# Altium footprint library Relay_SMD.PcbLib: 21 footprints (part 2 of 2)
Each footprint in its own frame and in the unit in brackets; x right, y up, seen from the top. Pads: shape width x height; smd on the part's side, far side on the other; paste and mask are expansions set on the pad; w line width, h text height; cw(c..) or ccw(c..) is an arc to the next point about the centre after c.
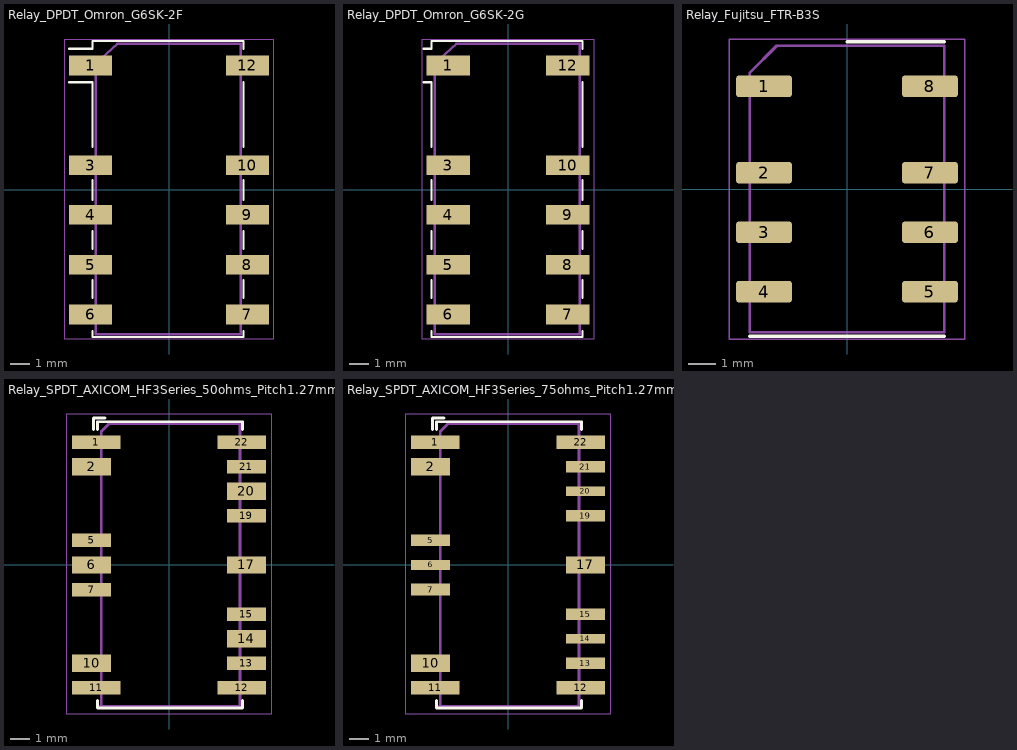
[diagram p1: the footprints below, top view; thin cyan lines are the x and y axes]

## Relay_DPDT_Omron_G6SK-2F [mm]
pads (10):
  rect 2.2x1 smd: 1(-4,6.35) 3(-4,1.27) 4(-4,-1.27) 5(-4,-3.81) 6(-4,-6.35) 7(4,-6.35) 8(4,-3.81) 9(4,-1.27) 10(4,1.27) 12(4,6.35)
F.SilkS:
  lines w0.12: -5.1,5.5 -3.9,5.5 -3.9,2.2 ; -5.1,7.2 -3.9,7.2 -3.9,7.6 3.8,7.6 3.8,7.2 ; -3.9,-7.2 -3.9,-7.5 3.8,-7.5 3.8,-7.2 ; -3.9,-5.5 -3.9,-4.6 ; -3.9,-3 -3.9,-2.1 ; -3.9,-0.5 -3.9,0.5 ; 3.8,-5.5 3.8,-4.6 ; 3.8,-3 3.8,-2.1 ; 3.8,-0.5 3.8,0.5 ; 3.8,2.2 3.8,5.5
F.CrtYd:
  lines w0.05: -5.35,-7.6 -5.35,7.7 5.35,7.7 5.35,-7.6 -5.35,-7.6
F.Fab:
  lines w0.12: -3.74,-7.35 -3.74,6.45 -2.64,7.45 3.66,7.45 3.66,-7.35 -3.74,-7.35
  text "'.Designator'" at -4.047,-0.84 h1

## Relay_DPDT_Omron_G6SK-2G [mm]
pads (10):
  rect 2.2x1 smd: 1(-3.05,6.35) 3(-3.05,1.27) 4(-3.05,-1.27) 5(-3.05,-3.81) 6(-3.05,-6.35) 7(3.05,-6.35) 8(3.05,-3.81) 9(3.05,-1.27) 10(3.05,1.27) 12(3.05,6.35)
F.SilkS:
  lines w0.12: -4.3,5.5 -3.9,5.5 -3.9,2.2 ; -4.3,7.2 -3.9,7.2 -3.9,7.6 3.8,7.6 3.8,7.2 ; -3.9,-7.2 -3.9,-7.5 3.8,-7.5 3.8,-7.2 ; -3.9,-5.5 -3.9,-4.6 ; -3.9,-3 -3.9,-2.1 ; -3.9,-0.5 -3.9,0.5 ; 3.8,-5.5 3.8,-4.6 ; 3.8,-3 3.8,-2.1 ; 3.8,-0.5 3.8,0.5 ; 3.8,2.2 3.8,5.5
F.CrtYd:
  lines w0.05: -4.4,-7.6 4.4,-7.6 4.4,7.7 -4.4,7.7 -4.4,-7.6
F.Fab:
  lines w0.12: -3.74,-7.35 -3.74,6.45 -2.64,7.45 3.66,7.45 3.66,-7.35 -3.74,-7.35
  text "'.Designator'" at -4.047,-0.84 h1

## Relay_Fujitsu_FTR-B3S [mm]
pads (8):
  rrect25% 2.06x0.8 smd: 1(-3.07,3.8) 2(-3.07,0.6) 3(-3.07,-1.6) 4(-3.07,-3.8) 5(3.07,-3.8) 6(3.07,-1.6) 7(3.07,0.6) 8(3.07,3.8)
F.SilkS:
  lines w0.12: -3.6,-5.45 3.6,-5.45 ; 0,5.45 3.6,5.45
F.CrtYd:
  lines w0.05: -4.35,-5.55 4.35,-5.55 4.35,5.55 -4.35,5.55 -4.35,-5.55
F.Fab:
  lines w0.1: -3.6,-5.3 -3.6,4.3 -2.6,5.3 3.6,5.3 3.6,-5.3 -3.6,-5.3
  text "'.Designator'" at 0.84,-4.047 h1

## Relay_SPDT_AXICOM_HF3Series_50ohms_Pitch1.27mm [mm]
pads (16):
  rect 2.5x0.7 smd: 1(-3.75,6.35) 11(-3.75,-6.35) 12(3.75,-6.35) 22(3.75,6.35)
  rect 2x0.9 smd: 2(-4,5.08) 6(-4,0) 10(-4,-5.08) 14(4,-3.81) 17(4,0) 20(4,3.81)
  rect 2x0.7 smd: 5(-4,1.27) 7(-4,-1.27) 13(4,-5.08) 15(4,-2.54) 19(4,2.54) 21(4,5.08)
F.SilkS:
  lines w0.15: -3.9,7 -3.9,7.6 -3.4,7.6 -3.3,7.6 ; -3.7,-7 -3.7,-7.4 3.8,-7.4 3.8,-7.1 3.8,-7 ; -3.7,7 -3.7,7.4 3.8,7.4 3.8,7
F.CrtYd:
  lines w0.05: -5.3,-7.7 -5.3,6.4 -5.3,7.8 -4.7,7.8 5.3,7.8 5.3,7.6 5.3,-6.7 5.3,-7.7 5.2,-7.7 -5.3,-7.7
F.Fab:
  lines w0.15: -3.54,-7.3 3.66,-7.3 3.66,7.3 0.06,7.3 ; -3.5,-7.3 -3.5,6.9 -3.1,7.3 0.1,7.3
  text "'.Designator'" at -3.987,-0.84 h1

## Relay_SPDT_AXICOM_HF3Series_75ohms_Pitch1.27mm [mm]
pads (16):
  rect 2.5x0.7 smd: 1(-3.75,6.35) 11(-3.75,-6.35) 12(3.75,-6.35) 22(3.75,6.35)
  rect 2x0.9 smd: 2(-4,5.08) 10(-4,-5.08) 17(4,0)
  rect 2x0.6 smd: 5(-4,1.27) 7(-4,-1.27) 13(4,-5.08) 15(4,-2.54) 19(4,2.54) 21(4,5.08)
  rect 2x0.5 smd: 6(-4,0) 14(4,-3.81) 20(4,3.81)
F.SilkS:
  lines w0.15: -3.9,7 -3.9,7.6 -3.4,7.6 -3.3,7.6 ; -3.7,-7 -3.7,-7.4 3.8,-7.4 3.8,-7.1 3.8,-7 ; -3.7,7 -3.7,7.4 3.8,7.4 3.8,7
F.CrtYd:
  lines w0.05: -5.3,-7.7 5.2,-7.7 5.3,-7.7 5.3,-6.7 5.3,7.6 5.3,7.8 -4.7,7.8 -5.3,7.8 -5.3,6.4 -5.3,-7.7
F.Fab:
  lines w0.15: -3.54,-7.3 3.66,-7.3 3.66,7.3 0.06,7.3 ; -3.5,-7.3 -3.5,6.9 -3.1,7.3 0.1,7.3
  text "'.Designator'" at -3.987,-0.84 h1